# Altium schematic symbol library CY7C1051H30-10ZSXIT.SchLib: 1 symbol
Pins are listed as number, name and electrical type; pins without a type are passive.

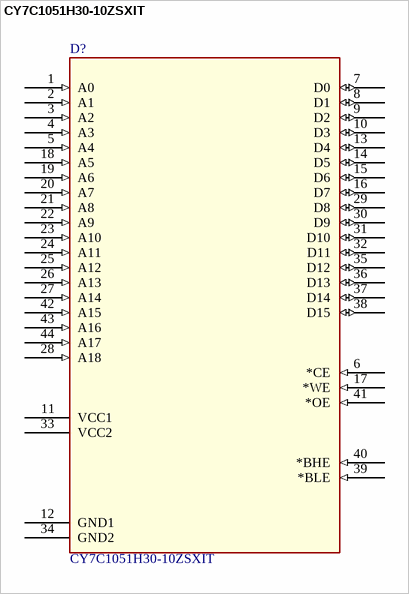
[diagram p0: symbol CY7C1051H30-10ZSXIT]

## CY7C1051H30-10ZSXIT
designator D?
SRAM Memory; SnapEDA_Link: https://www.snapeda.com/parts/CY7C1051H30-10ZSXIT/Cypress+semiconductor/view-part/?ref=snap; Check_prices: https://www.snapeda.com/parts/CY7C1051H30-10ZSXIT/Cypress+semiconductor/view-part/?ref=eda; Value: *
footprint SOP80P1183X119-44N (Footprint not found)
pins: 1 A0 (in), 2 A1 (in), 3 A2 (in), 4 A3 (in), 5 A4 (in), 6 *CE (in), 7 D0 (io), 8 D1 (io), 9 D2 (io), 10 D3 (io), 11 VCC1 (power), 12 GND1 (power), 13 D4 (io), 14 D5 (io), 15 D6 (io), 16 D7 (io), 17 *WE (in), 18 A5 (in), 19 A6 (in), 20 A7 (in), 21 A8 (in), 22 A9 (in), 23 A10 (in), 24 A11 (in), 25 A12 (in), 26 A13 (in), 27 A14 (in), 28 A18 (in), 29 D8 (io), 30 D9 (io), 31 D10 (io), 32 D11 (io), 33 VCC2 (power), 34 GND2 (power), 35 D12 (io), 36 D13 (io), 37 D14 (io), 38 D15 (io), 39 *BLE (in), 40 *BHE (in), 41 *OE (in), 42 A15 (in), 43 A16 (in), 44 A17 (in)